# EAGLE library part LT1167CS8PBF (library 029000100  -  gKEagleLibrary)
Single Resistor Gain Programmable, Precision Instrumentation Amplifier
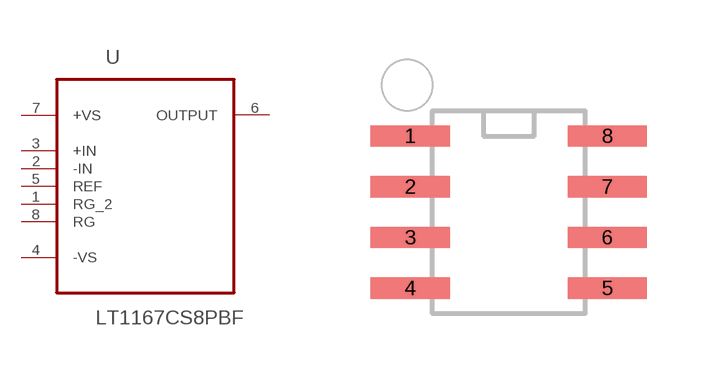
[diagram p27: symbol with the pads of SOIC127P600X175-8N; footprint SOIC127P600X175-8N]

Designator prefix U

## LT1167CS8PBF (MPN: LT1167CS8#PBF; OC_FARNELL: 1663386; OC_NEWARK: 57M2305; PACKAGE: SOIC-8; SUPPLIER: Linear Technology)  [SOIC127P600X175-8N]
1  RG_2  pas
2  -IN  in
3  +IN  in
4  -VS  pwr
5  REF  in
6  OUTPUT  out
7  +VS  pwr
8  RG  pas

## Footprint SOIC127P600X175-8N (pad centres in mm)
smd 1.981 x 0.533: 1 -2.464,1.905; 2 -2.464,0.635; 3 -2.464,-0.635; 4 -2.464,-1.905; 5 2.464,-1.905; 6 2.464,-0.635; 7 2.464,0.635; 8 2.464,1.905